# Altium schematic symbol library lan8720.SchLib: 1 symbol
Pins are listed as number, name and electrical type; pins without a type are passive.

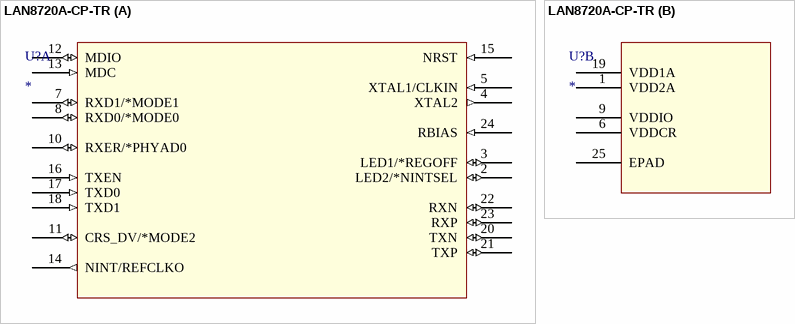
[diagram p0: symbol LAN8720A-CP-TR]

## LAN8720A-CP-TR
designator U?
Imported; Manufacturer_Part_Number: LAN8720A-CP-TR; Built_By: EMA_UL_Team; Vendor: Microchip; Value: Value; Type: Type; RefDes: RefDes
footprint QFN24-6X6_MC
part A pins: 2 LED2/*NINTSEL (io), 3 LED1/*REGOFF (io), 4 XTAL2 (out), 5 XTAL1/CLKIN (in), 7 RXD1/*MODE1 (io), 8 RXD0/*MODE0 (io), 10 RXER/*PHYAD0 (io), 11 CRS_DV/*MODE2 (io), 12 MDIO (io), 13 MDC (in), 14 NINT/REFCLKO (out), 15 NRST (in), 16 TXEN (in), 17 TXD0 (in), 18 TXD1 (in), 20 TXN (io), 21 TXP (io), 22 RXN (io), 23 RXP (io), 24 RBIAS (in)
part B pins: 1 VDD2A (power), 6 VDDCR (power), 9 VDDIO (power), 19 VDD1A (power), 25 EPAD